# EAGLE library part TNY280 (library 1-my-library)
SMPS Controller https://www.power.com/sites/default/files/product-docs/tny274-280.pdf
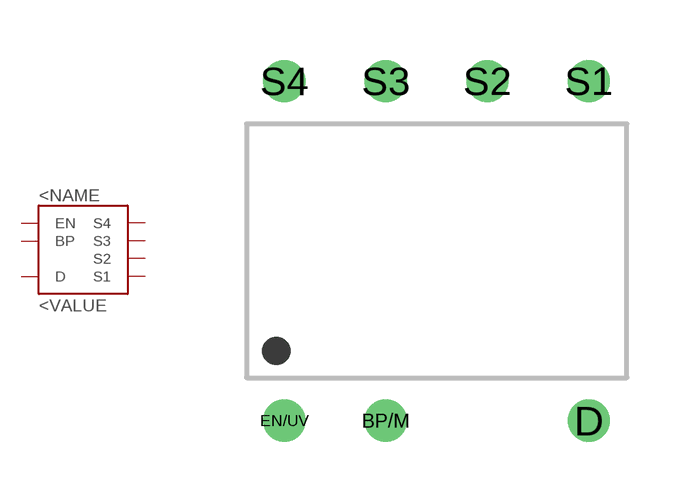
[diagram p0: symbol with the pads of TNY280P; footprint TNY280P]

Designator prefix IC

## TNY280  [TNY280P]
BP/M  BP
D  D
EN/UV  EN
S1  S1  out
S2  S2  out
S3  S3  out
S4  S4  out

## Footprint TNY280P (pad centres in mm)
drill 0.55: BP/M 2.54,0; D 7.62,0; EN/UV 0,0; S1 7.62,8.5; S2 5.08,8.5; S3 2.54,8.5; S4 0,8.5